# Altium schematic symbol library P25-0123.Schlib: 1 symbol
Pins are listed as number, name and electrical type; pins without a type are passive.

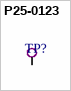
[diagram p0: symbol P25-0123]

## P25-0123
designator TP?  (value not drawn)
pins: 1 TP